# EAGLE library part MPL115A2 (library workshop parts)
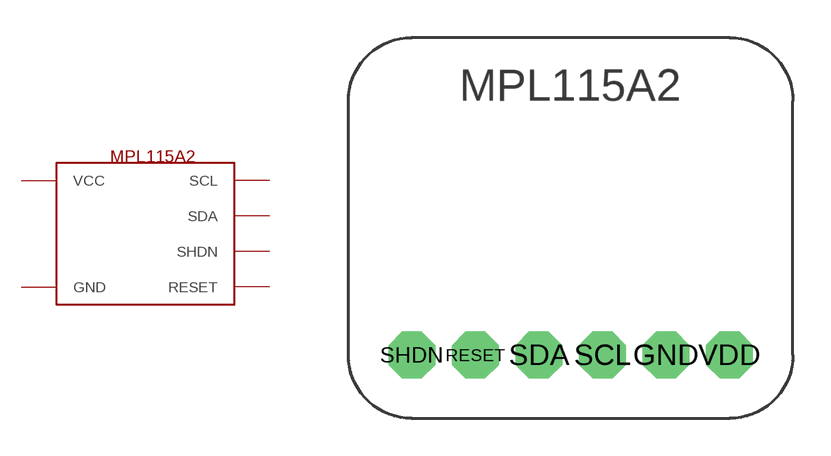
[diagram p1: symbol with the pads of MPL115A2; footprint MPL115A2]

Designator prefix -

## MPL115A2  [MPL115A2]
GND  GND
RESET  RESET
SCL  SCL
SDA  SDA
SHDN  SHDN
VDD  VCC

## Footprint MPL115A2 (pad centres in mm)
drill 1.016 pad 1.88 octagon: GND 3.81,-2.54; RESET -3.81,-2.54; SCL 1.27,-2.54; SDA -1.27,-2.54; SHDN -6.35,-2.54; VDD 6.35,-2.54